# EAGLE library part SAW8 (library receiver_2v0)
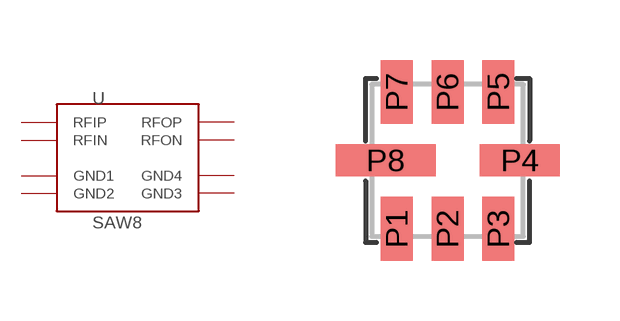
[diagram p3: symbol with the pads of SAW8; footprint SAW8]

Designator prefix U

## SAW8  [SAW8]
P1  RFIP
P2  RFIN
P3  GND1
P4  GND2
P5  RFOP
P6  RFON
P7  GND3
P8  GND4

## Footprint SAW8 (pad centres in mm)
smd 0.8 x 1.6: P1 -1.27,-1.71; P2 0,-1.71; P3 1.27,-1.71; P5 1.27,1.71; P6 0,1.71; P7 -1.27,1.71
smd 2 x 0.8: P4 1.81,0
smd 2.5 x 0.8: P8 -1.55,0